# Altium footprint library STM32F207开发板（基本型）V1.0.PcbLib: 31 footprints (part 2 of 2)
Each footprint in its own frame and in the unit in brackets; x right, y up, seen from the top. Pads: shape width x height; smd on the part's side, far side on the other; paste and mask are expansions set on the pad; w line width, h text height; cw(c..) or ccw(c..) is an arc to the next point about the centre after c.
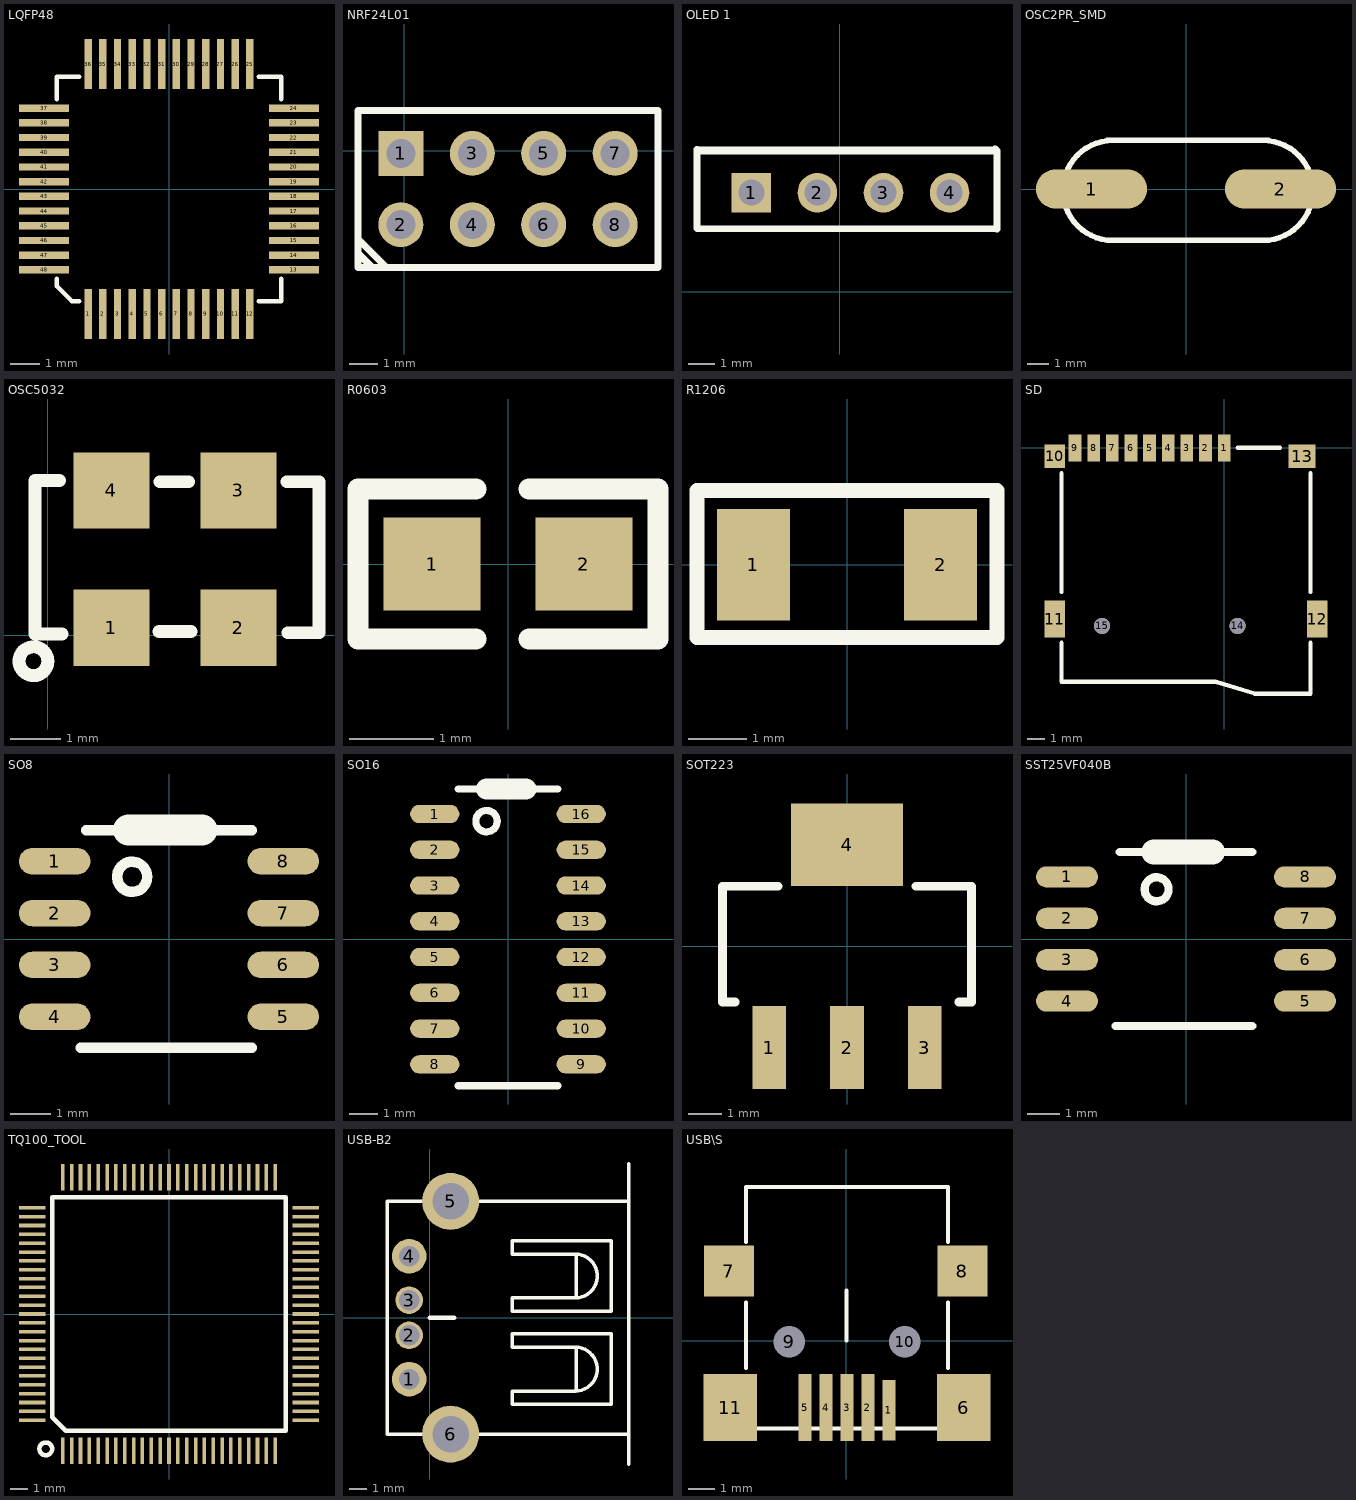
[diagram p1: the footprints below, top view; thin cyan lines are the x and y axes]

## LQFP48 [mm]
pads (48):
  rect 0.25x1.7 smd: 1(-2.75,-4.25) 2(-2.25,-4.25) 3(-1.75,-4.25) 4(-1.25,-4.25) 5(-0.75,-4.25) 6(-0.25,-4.25) 7(0.25,-4.25) 8(0.75,-4.25) 9(1.25,-4.25) 10(1.75,-4.25) 11(2.25,-4.25) 12(2.75,-4.25) 25(2.75,4.25) 26(2.25,4.25) 27(1.75,4.25) 28(1.25,4.25) 29(0.75,4.25) 30(0.25,4.25) 31(-0.25,4.25) 32(-0.75,4.25) 33(-1.25,4.25) 34(-1.75,4.25) 35(-2.25,4.25) 36(-2.75,4.25)
  rect 1.7x0.25 smd: 13(4.25,-2.75) 14(4.25,-2.25) 15(4.25,-1.75) 16(4.25,-1.25) 17(4.25,-0.75) 18(4.25,-0.25) 19(4.25,0.25) 20(4.25,0.75) 21(4.25,1.25) 22(4.25,1.75) 23(4.25,2.25) 24(4.25,2.75) 37(-4.25,2.75) 38(-4.25,2.25) 39(-4.25,1.75) 40(-4.25,1.25) 41(-4.25,0.75) 42(-4.25,0.25) 43(-4.25,-0.25) 44(-4.25,-0.75) 45(-4.25,-1.25) 46(-4.25,-1.75) 47(-4.25,-2.25) 48(-4.25,-2.75)
Top Overlay:
  lines w0.152: -3.81,-3.048 -3.81,-3.302 -3.302,-3.81 -3.048,-3.81 ; -3.81,3.048 -3.81,3.81 -3.048,3.81 ; 3.048,-3.81 3.81,-3.81 3.81,-3.048 ; 3.048,3.81 3.81,3.81 3.81,3.048

## NRF24L01 [mil]
pads (8):
  rect 62x62 hole 40: 1(-4.72,-3.54)
  round 62 hole 40: 2(-4.72,-101.97) 3(93.7,-3.54) 4(93.7,-101.97) 5(192.13,-3.54) 6(192.13,-101.97) 7(290.55,-3.54) 8(290.55,-101.97)
Top Overlay:
  lines w10: -63.78,-141.34 -44.09,-161.02 ; -63.78,-121.65 -24.41,-161.02 ; -63.78,-161.02 -63.78,16.14 -63.78,55.51 349.61,55.51 349.61,-161.02 -63.78,-161.02

## OLED 1 [mil]
pads (4):
  rect 60x60 hole 39.37: 1(-133.51,149.78)
  round 60 hole 39.37: 2(-33.51,149.78) 3(66.49,149.78) 4(166.49,149.78)
Top Overlay:
  lines w10: -215.74,215.65 -215.74,95.72 -215.01,94.98 237.51,94.98 238.25,94.24 238.25,213.45 235.31,216.39
  lines w11.81: -215.25,213.76 236.46,213.76

## OSC2PR_SMD [mil]
pads (2):
  oval 200x70 smd: 1(-170,0) 2(170,0)
Top Overlay:
  lines w10: -141.5,-92.5 -131.5,-92.5 cw(c-131.5,-2.5) -131.5,87.5 -141.5,87.5 148.5,87.5 138.5,87.5 cw(c138.5,-2.5) 138.5,-92.5 148.5,-92.5 -141.5,-92.5

## OSC5032 [mm]
pads (4):
  rect 1.5x1.5 smd: 1(1.25,0.15) 2(3.75,0.15) 3(3.75,2.85) 4(1.25,2.85)
Top Overlay:
  circle w0.254: c-0.284,-0.508 r0.284
  lines w0.254: 0.229,3.048 -0.254,3.048 -0.254,0.025 0.279,0.025 ; 2.184,0.076 2.819,0.076 ; 2.21,3.023 2.769,3.023 ; 4.699,3.023 5.334,3.023 5.334,0.051 4.724,0.051

## R0603 [mm]
pads (2):
  rect 1.15x1.1 smd: 1(-0.9,0) 2(0.9,0)
Top Overlay:
  lines w0.254: -0.381,-0.889 -1.778,-0.889 -1.778,0.889 -0.381,0.889 ; 0.254,-0.889 1.778,-0.889 1.778,0.889 0.254,0.889

## R1206 [mm]
pads (2):
  rect 1.25x1.9 smd: 1(-1.6,0) 2(1.6,0)
Top Overlay:
  lines w0.254: -2.565,-1.245 -2.565,1.27 2.565,1.27 2.565,-1.245 -2.565,-1.245

## SD [mm]
pads (15):
  rect 0.75x1.6 smd: 1(0,0) 2(-1.1,0) 3(-2.2,0) 4(-3.3,0) 5(-4.4,0) 6(-5.5,0) 7(-6.6,0) 8(-7.7,0) 9(-8.8,0)
  rect 1.2x1.4 smd: 10(-10,-0.5)
  rect 1.2x2.2 smd: 11(-10,-10.1) 12(5.5,-10.1)
  rect 1.6x1.4 smd: 13(4.6,-0.5)
  round 0.95 hole 0.95 unplated: 14(0.8,-10.5) 15(-7.2,-10.5)
Top Overlay:
  lines w0.254: -9.6,-11.5 -9.6,-13.8 -0.5,-13.8 1.8,-14.5 5.1,-14.5 5.1,-11.5 ; -9.6,-8.5 -9.6,-1.5 ; 0.8,0 3.3,0 ; 5.1,-8.5 5.1,-1.5

## SO8 [mm] "SOIC, 8-Leads, Body 4.9x3.9mm, Pitch 1.27mm, IPC Medium Density"
height 1.75
pads (8):
  oval 1.75x0.65 smd: 1(-2.8,1.905) 2(-2.8,0.635) 3(-2.8,-0.635) 4(-2.8,-1.905) 5(2.8,-1.905) 6(2.8,-0.635) 7(2.8,0.635) 8(2.8,1.905)
Top Overlay:
  circle w0.254: c-0.902,1.524 r0.368
  lines w0.254: -2.159,-2.667 2.032,-2.667 ; -2.032,2.667 2.032,2.667
  lines w0.762: -0.991,2.667 0.813,2.667

## SO16 [mm] "SOIC, 16-Leads, Body 9.9x3.9mm, Pitch 1.27mm, IPC Medium Density"
height 1.75
pads (16):
  oval 1.75x0.65 smd: 1(-2.6,4.445) 2(-2.6,3.175) 3(-2.6,1.905) 4(-2.6,0.635) 5(-2.6,-0.635) 6(-2.6,-1.905) 7(-2.6,-3.175) 8(-2.6,-4.445) 9(2.6,-4.445) 10(2.6,-3.175) 11(2.6,-1.905) 12(2.6,-0.635) 13(2.6,0.635) 14(2.6,1.905) 15(2.6,3.175) 16(2.6,4.445)
Top Overlay:
  circle w0.254: c-0.762,4.191 r0.381
  lines w0.254: -1.778,-5.207 1.778,-5.207 ; -1.778,5.334 1.778,5.334
  lines w0.762: -0.762,5.334 0.635,5.334

## SOT223 [mm] "SOT-223/SC-73; 4 Leads; Body 6.7 x 7.3 mm, inc. leads (LxW max)"
height 1.8
pads (4):
  rect 1x2.45 smd: 1(-2.3,-3) 2(0,-3) 3(2.3,-3)
  rect 3.3x2.45 smd: 4(0,3)
Top Overlay:
  lines w0.254: -3.302,-1.651 -3.683,-1.651 -3.683,1.778 -2.032,1.778 ; 2.032,1.778 3.683,1.778 3.683,-1.651 3.302,-1.651

## SST25VF040B [mm] "SOIC, 8-Leads, Body 4.9x3.9mm, Pitch 1.27mm, IPC Medium Density"
height 1.75
pads (8):
  oval 1.9x0.65 smd: 1(-3.65,1.905) 2(-3.65,0.635) 3(-3.65,-0.635) 4(-3.65,-1.905) 5(3.65,-1.905) 6(3.65,-0.635) 7(3.65,0.635) 8(3.65,1.905)
Top Overlay:
  circle w0.254: c-0.902,1.524 r0.368
  lines w0.254: -2.159,-2.667 2.032,-2.667 ; -2.032,2.667 2.032,2.667
  lines w0.762: -0.991,2.667 0.813,2.667

## TQ100_TOOL [mm]
pads (100):
  rect 0.2x1.5 smd: 1(-6,-7.725) 2(-5.5,-7.725) 3(-5,-7.725) 4(-4.5,-7.725) 5(-4,-7.725) 6(-3.5,-7.725) 7(-3,-7.725) 8(-2.5,-7.725) 9(-2,-7.725) 10(-1.5,-7.725) 11(-1,-7.725) 12(-0.5,-7.725) 13(0,-7.725) 14(0.5,-7.725) 15(1,-7.725) 16(1.5,-7.725) 17(2,-7.725) 18(2.5,-7.725) 19(3,-7.725) 20(3.5,-7.725) 21(4,-7.725) 22(4.5,-7.725) 23(5,-7.725) 24(5.5,-7.725) 25(6,-7.725) 51(6,7.725) 52(5.5,7.725) 53(5,7.725) 54(4.5,7.725) 55(4,7.725) 56(3.5,7.725) 57(3,7.725) 58(2.5,7.725) 59(2,7.725) 60(1.5,7.725) 61(1,7.725) 62(0.5,7.725) 63(0,7.725) 64(-0.5,7.725) 65(-1,7.725) 66(-1.5,7.725) 67(-2,7.725) 68(-2.5,7.725) 69(-3,7.725) 70(-3.5,7.725) 71(-4,7.725) 72(-4.5,7.725) 73(-5,7.725) 74(-5.5,7.725) 75(-6,7.725)
  rect 1.5x0.2 smd: 26(7.725,-6) 27(7.725,-5.5) 28(7.725,-5) 29(7.725,-4.5) 30(7.725,-4) 31(7.725,-3.5) 32(7.725,-3) 33(7.725,-2.5) 34(7.725,-2) 35(7.725,-1.5) 36(7.725,-1) 37(7.725,-0.5) 38(7.725,0) 39(7.725,0.5) 40(7.725,1) 41(7.725,1.5) 42(7.725,2) 43(7.725,2.5) 44(7.725,3) 45(7.725,3.5) 46(7.725,4) 47(7.725,4.5) 48(7.725,5) 49(7.725,5.5) 50(7.725,6) 76(-7.725,6) 77(-7.725,5.5) 78(-7.725,5) 79(-7.725,4.5) 80(-7.725,4) 81(-7.725,3.5) 82(-7.725,3) 83(-7.725,2.5) 84(-7.725,2) 85(-7.725,1.5) 86(-7.725,1) 87(-7.725,0.5) 88(-7.725,0) 89(-7.725,-0.5) 90(-7.725,-1) 91(-7.725,-1.5) 92(-7.725,-2) 93(-7.725,-2.5) 94(-7.725,-3) 95(-7.725,-3.5) 96(-7.725,-4) 97(-7.725,-4.5) 98(-7.725,-5) 99(-7.725,-5.5) 100(-7.725,-6)
Top Overlay:
  circle w0.254: c-6.963,-7.62 r0.359
  lines w0.254: -6.604,-5.842 -6.096,-6.35 -5.842,-6.604 6.604,-6.604 6.604,6.604 -6.604,6.604 -6.604,-5.334 -6.604,-5.842

## USB-B2 [mm]
height 2.2
pads (6):
  round 2 hole 1.2: 1(-1.2,-3.556) 4(-1.2,3.556)
  round 1.6 hole 1.2: 2(-1.2,-1.016) 3(-1.2,1.016)
  round 3.3 hole 2.1: 5(1.2,6.731) 6(1.2,-6.731)
Top Overlay:
  lines w0.203: 8.452,-4.191 8.452,-1.753 ; 8.452,1.194 8.452,3.632 ; 11.5,-8.458 11.5,8.89 ; 11.5,-6.731 -2.47,-6.731 -2.47,6.731 11.5,6.731 ; 4.769,-5.004 10.484,-5.004 10.484,-0.94 4.769,-0.94 4.769,-1.702 8.421,-1.702 cw(c8.408,-2.972) 8.421,-4.242 4.769,-4.242 4.769,-5.004 ; 4.769,0.381 10.484,0.381 10.484,4.445 4.769,4.445 4.769,3.683 8.421,3.683 cw(c8.408,2.413) 8.421,1.143 4.769,1.143 4.769,0.381
  lines w0.254: 0,0 1.397,0

## USB\S [mm]
height 2.2
pads (11):
  rect 0.508x2.3 smd: 1(1.627,-2.65)
  rect 0.508x2.54 smd: 2(0.827,-2.55) 3(0.027,-2.55) 4(-0.773,-2.55) 5(-1.573,-2.55)
  rect 2.032x2.54 smd: 6(4.472,-2.55) 11(-4.418,-2.55)
  rect 1.9x1.95 smd: 7(-4.473,2.65) 8(4.427,2.65)
  round 0.94 hole 1.2 unplated: 9(-2.173,-0.05) 10(2.227,-0.05)
Top Overlay:
  lines w0.152: -3.822,-1.05 -3.822,1.45 ; -3.822,3.75 -3.822,5.85 3.878,5.85 3.878,3.75 ; -3.772,-3.35 3.827,-3.35 ; 0,0 0,1.905 ; 3.878,-1.05 3.878,1.45